# Altium schematic symbol library KeypadScanner.SCHLIB: 1 symbol
Pins are listed as number, name and electrical type; pins without a type are passive.

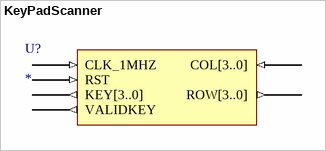
[diagram p0: symbol KeyPadScanner]

## KeyPadScanner
designator U?
ChildModel1: FDC; ChildModel2: FD4CB; ChildModel3: AND4S; ChildModel4: NAND4B; ChildModel5: FD; ChildModel6: INV4B; ChildModel7: E4_2B; ChildModel8: INV; ChildModel9: CB2CEB; ChildModel10: D2_4EB; ChildModel11: CDIV64; ChildModel12: CDIV4
pins: CLK_1MHZ (in), COL[3..0] (in), KEY[3..0] (out), ROW[3..0] (out), RST (in), VALIDKEY (out)